# Altium footprint library Barsotion_PcbLib.PcbLib: 66 footprints (part 1 of 5)
Each footprint in its own frame and in the unit in brackets; x right, y up, seen from the top. Pads: shape width x height; smd on the part's side, far side on the other; paste and mask are expansions set on the pad; w line width, h text height; cw(c..) or ccw(c..) is an arc to the next point about the centre after c.
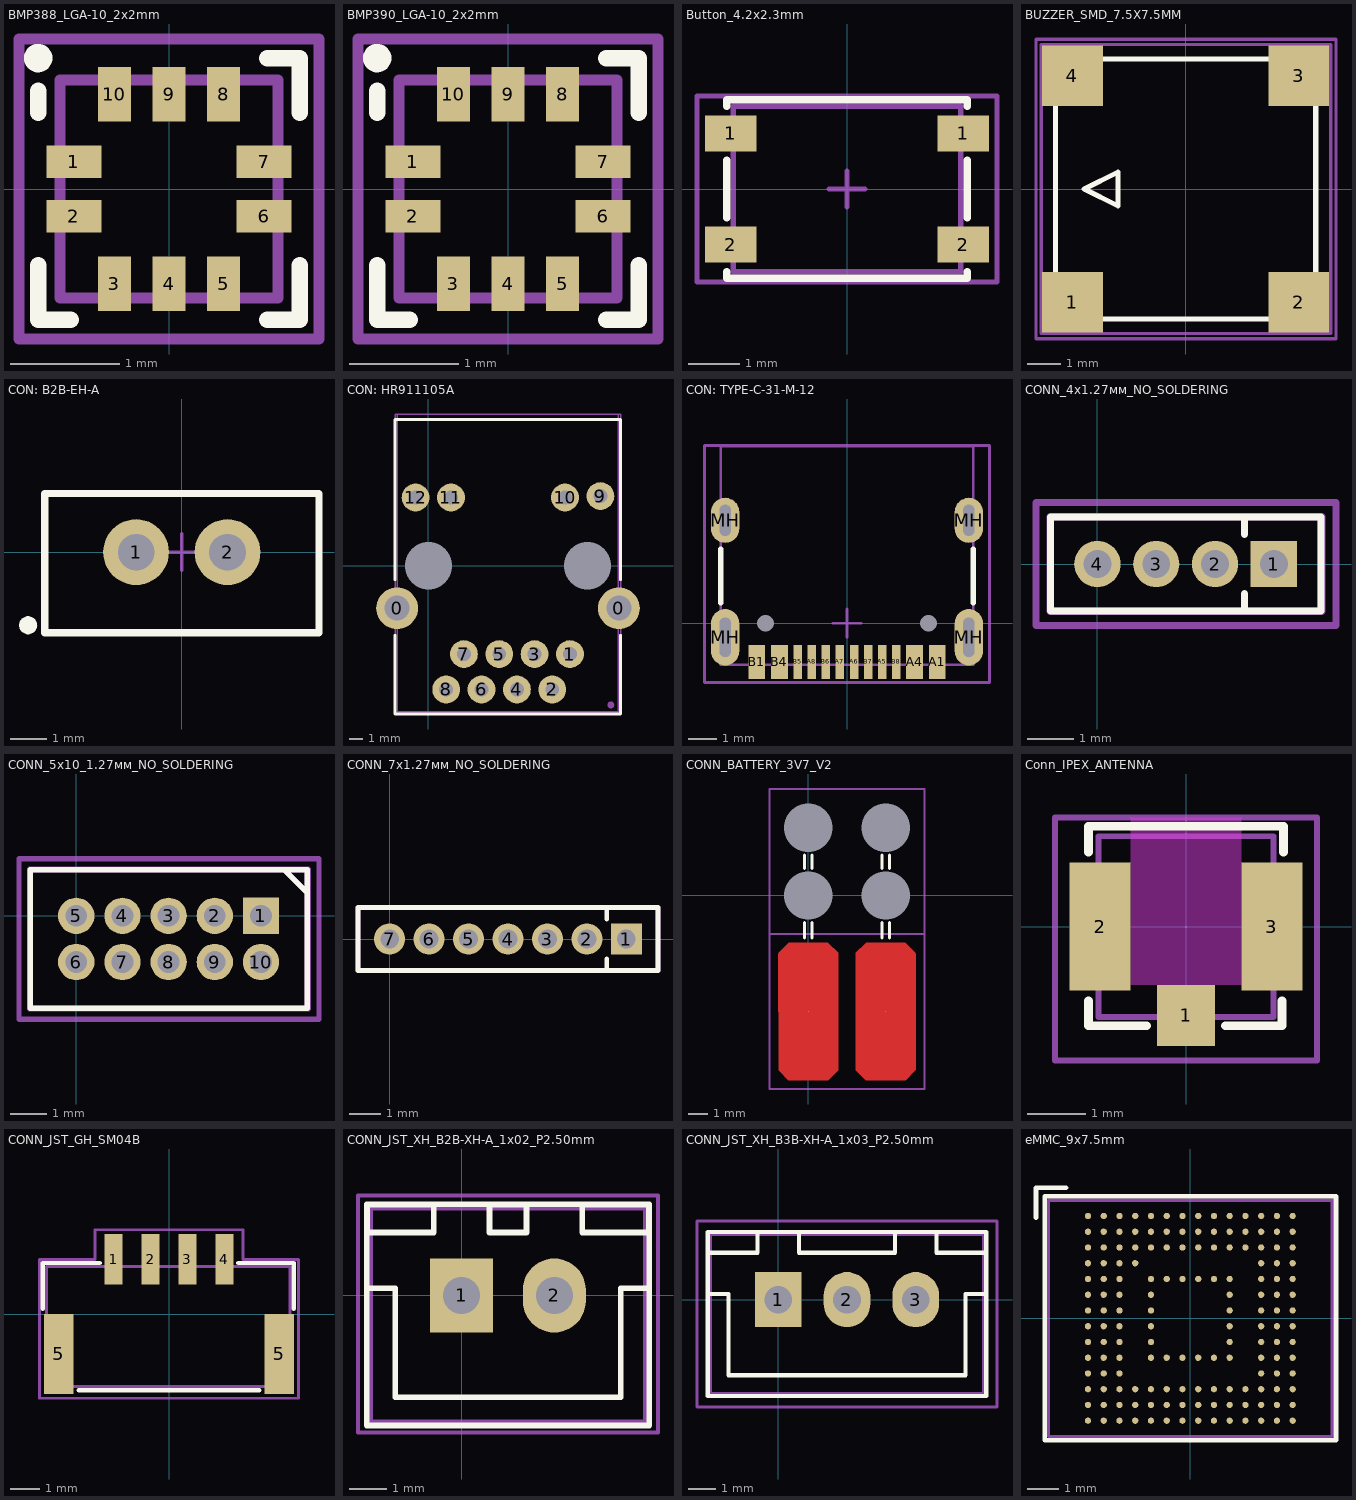
[diagram p0: the footprints below, top view; thin cyan lines are the x and y axes]

## BMP388_LGA-10_2x2mm [mm]
pads (10):
  rect 0.5x0.3 smd mask+0.05: 1(-0.871,0.25) 2(-0.871,-0.25) 6(0.871,-0.25) 7(0.871,0.25)
  rect 0.3x0.5 smd mask+0.05: 3(-0.5,-0.869) 4(0,-0.869) 5(0.5,-0.869) 8(0.5,0.869) 9(0,0.869) 10(-0.5,0.869)
Top Overlay:
  circle w0.15: c-1.2,1.2 r0.056
  lines w0.15: -1.2,-0.7 -1.2,-1.2 -0.9,-1.2 ; -1.2,0.7 -1.2,0.9 ; 0.9,-1.2 1.2,-1.2 1.2,-0.7 ; 0.9,1.2 1.2,1.2 1.2,0.7
Mechanical 1:
  lines w0.1: -1,-1 -1,1 1,1 1,-1 -1,-1
Mechanical 15:
  lines w0.1: -1.375,-1.375 1.375,-1.375 1.375,1.375 -1.375,1.375 -1.375,-1.375
3D body "BMP388.step": height 0.8, standoff 0, extent -1,-1 1,1

## BMP390_LGA-10_2x2mm [mm]
pads (10):
  rect 0.5x0.3 smd mask+0.05: 1(-0.871,0.25) 2(-0.871,-0.25) 6(0.871,-0.25) 7(0.871,0.25)
  rect 0.3x0.5 smd mask+0.05: 3(-0.5,-0.869) 4(0,-0.869) 5(0.5,-0.869) 8(0.5,0.869) 9(0,0.869) 10(-0.5,0.869)
Top Overlay:
  circle w0.15: c-1.2,1.2 r0.056
  lines w0.15: -1.2,-0.7 -1.2,-1.2 -0.9,-1.2 ; -1.2,0.7 -1.2,0.9 ; 0.9,-1.2 1.2,-1.2 1.2,-0.7 ; 0.9,1.2 1.2,1.2 1.2,0.7
Mechanical 1:
  lines w0.1: -1,-1 1,-1 1,1 -1,1 -1,-1
Mechanical 15:
  lines w0.1: -1.375,-1.375 1.375,-1.375 1.375,1.375 -1.375,1.375 -1.375,-1.375
3D body "BMP390.step": height 0.8, standoff 0, extent -1,-1 1,1

## Button_4.2x2.3mm [mm]
pads (4):
  rect 1x0.7 smd mask+0.05: 1(-2.25,1.075) 1(2.25,1.075) 2(-2.25,-1.075) 2(2.25,-1.075)
Top Overlay:
  lines w0.15: -2.325,-1.6 -2.325,-1.725 2.325,-1.725 2.325,-1.6 ; -2.325,-0.55 -2.325,0.55 ; -2.325,1.6 -2.325,1.725 2.325,1.725 2.325,1.6 ; 2.325,-0.55 2.325,0.55
Mechanical 1:
  lines w0.1: -2.2,-1.6 -2.2,1.6 2.2,1.6 2.2,-1.6 -2.2,-1.6
Mechanical 15:
  lines w0.1: -0.35,0 0.35,0 ; 0,-0.35 0,0.35 ; -2.9,-1.8 2.9,-1.8 2.9,1.8 -2.9,1.8 -2.9,-1.8

## BUZZER_SMD_7.5X7.5MM [mm]
pads (4):
  rect 1.8x1.8 smd mask+0.05: 1(-3.35,-3.35) 2(3.35,-3.35) 3(3.35,3.35) 4(-3.35,3.35)
Top Overlay:
  lines w0.15: -3.85,-3.85 3.85,-3.85 3.85,3.85 -3.85,3.85 -3.85,-3.85 ; -3,0 -2,-0.5 -2,0.5 -3,0
Mechanical 13:
  lines w0.1: -4.275,-4.275 4.3,-4.275 4.3,4.275 -4.275,4.275 -4.275,-4.275
Mechanical 15:
  lines w0.1: -4.425,-4.425 4.45,-4.425 4.45,4.425 -4.425,4.425 -4.425,-4.425
3D body "PUIAudio_SMT_0825_S_4_R.step": height 3.03, standoff -0.02, extent -4.269,-4.269 4.269,4.269

## CON: B2B-EH-A [mm]
pads (3):
  round 1.8 hole 1: 1(-1.25,0) 2(1.25,0)
  round 0.5 on Top Overlay: ""(-4.2,-2)
Top Overlay:
  lines w0.2: -3.75,-2.2 -3.75,1.6 3.75,1.6 3.75,-2.2 -3.75,-2.2
Mechanical 1:
  lines w0.1: -3.75,-2.2 -3.75,1.6 3.75,1.6 3.75,-2.2 -3.75,-2.2
Mechanical 15:
  lines w0.1: -0.5,0 0.5,0 ; 0,-0.5 0,0.5 ; -3.75,-2.2 -3.75,1.6 3.75,1.6 3.75,-2.2 -3.75,-2.2
3D body "User Library-B2B-EH-A.STEP": height 6.05, standoff -3.15, extent -3.75,-2.2 3.75,1.6

## CON: HR911105A [mm]
height 14
pads (17):
  round 3 hole 1.8: 0(-2.25,-3.05) 0(13.68,-3.05)
  oval 0.7x0 hole 3.4: 0(0,0) 0(11.43,0)
  round 2 hole 1: 1(10.165,-6.35) 2(8.895,-8.89) 3(7.625,-6.35) 4(6.355,-8.89) 5(5.085,-6.35) 6(3.815,-8.89) 7(2.545,-6.35) 8(1.275,-8.89) 9(12.35,5) 10(9.81,4.9) 11(1.62,4.9) 12(-0.92,4.9)
  round 0.5 on Mech1: ""(13.1,-10)
Top Overlay:
  lines w0.2: -2.4,-5 -2.4,-10.65 13.8,-10.65 13.8,-5 ; -2.4,-1 -2.4,10.5 13.8,10.5 13.8,-1
Mechanical 1:
  lines w0.1: -2.24,-10.5 -2.24,10.9 13.64,10.9 13.64,-10.5 -2.24,-10.5
Mechanical 15:
  lines w0.1: -2.4,-10.6 -2.4,-1 -2.4,10.9 13.8,10.9 13.8,-10.6 -2.4,-10.6
3D body "User Library-HR911105A.STEP": height 13.6, standoff -2.9, extent -2.24,-10.5 13.64,10.9

## CON: TYPE-C-31-M-12 [mm]
pads (18):
  rect 0.6x1.2 smd mask+0.075: A1(3.2,-1.375) A4(2.4,-1.375) B1(-3.2,-1.375) B4(-2.4,-1.375)
  rect 0.3x1.2 smd mask+0.075: A5(1.25,-1.375) A6(0.25,-1.375) A7(-0.25,-1.375) A8(-1.25,-1.375) B5(-1.75,-1.375) B6(-0.75,-1.375) B7(0.75,-1.375) B8(1.75,-1.375)
  oval 1x2 hole 0.4 slot 1.4 at 90 deg mask+0.075: MH(-4.32,-0.5) MH(4.32,-0.5)
  oval 1x1.6 hole 0.4 slot 1.1 at 90 deg mask+0.075: MH(-4.32,3.65) MH(4.32,3.65)
  round 0 hole 0.6 mask+0.075: MH(-2.89,0) MH(2.89,0)
Top Overlay:
  lines w0.2: -4.475,0.725 -4.475,2.625 ; 4.475,0.725 4.475,2.625
Mechanical 1:
  lines w0.1: -4.475,-1.475 4.475,-1.475 4.475,6.275 -4.475,6.275 -4.475,-1.475
Mechanical 15:
  lines w0.1: -0.5,0 0.5,0 ; 0,-0.5 0,0.5 ; -5.05,-2.1 -5.05,6.3 5.05,6.3 5.05,-2.1 -5.05,-2.1
3D body "User Library-USB - C.STEP": height 3.26, standoff -1, extent -4.475,-1.475 4.475,6.275

## CONN_4x1.27мм_NO_SOLDERING [mm]
pads (4):
  rect 1x1 hole 0.6 mask+0.05: 1(3.81,0)
  round 1 hole 0.6 mask+0.05: 2(2.54,0) 3(1.27,0) 4(0,0)
Top Overlay:
  lines w0.15: 3.175,-1.016 3.175,-0.635 ; 3.175,0.635 3.175,1.016 ; -1.016,-1.016 4.826,-1.016 4.826,1.016 -1.016,1.016 -1.016,-1.016
Mechanical 1:
  lines w0.15: -1.016,-1.016 -0.762,-1.016 4.826,-1.016 4.826,1.016 0,1.016 -1.016,1.016 -1.016,-1.016
Mechanical 13:
  lines w0.15: -1.025,-1.025 4.85,-1.025 4.85,1.025 -1.025,1.025 -1.025,-1.025
Mechanical 15:
  lines w0.15: -1.325,-1.325 5.15,-1.325 5.15,1.325 -1.325,1.325 -1.325,-1.325

## CONN_5x10_1.27мм_NO_SOLDERING [mm]
pads (10):
  rect 1x1 hole 0.6 mask+0.05: 1(5.08,0)
  round 1 hole 0.6 mask+0.05: 2(3.81,0) 3(2.54,0) 4(1.27,0) 5(0,0) 6(0,-1.27) 7(1.27,-1.27) 8(2.54,-1.27) 9(3.81,-1.27) 10(5.08,-1.27)
Top Overlay:
  lines w0.15: 5.715,1.27 6.35,0.635 ; -1.27,-2.54 -1.27,1.27 6.35,1.27 6.35,-2.54 -1.27,-2.54
Mechanical 13:
  lines w0.15: 5.715,1.27 6.35,0.635 ; -1.275,-2.55 6.375,-2.55 6.375,1.275 -1.275,1.275 -1.275,-2.55 ; -1.27,-2.54 6.35,-2.54 6.35,1.27 -1.27,1.27 -1.27,-2.54
Mechanical 15:
  lines w0.15: -1.575,-2.85 6.675,-2.85 6.675,1.575 -1.575,1.575 -1.575,-2.85

## CONN_7x1.27мм_NO_SOLDERING [mm]
pads (7):
  rect 1x1 hole 0.6 mask+0.05: 1(7.62,0)
  round 1 hole 0.6 mask+0.05: 2(6.35,0) 3(5.08,0) 4(3.81,0) 5(2.54,0) 6(1.27,0) 7(0,0)
Top Overlay:
  lines w0.15: 6.985,-1.016 6.985,-0.635 ; 6.985,0.635 6.985,1.016 ; -1.016,-1.016 -1.016,1.016 8.636,1.016 8.636,-1.016 -1.016,-1.016
Mechanical 1:
  lines w0.15: -1.016,-1.016 -1.016,1.016 0,1.016 8.636,1.016 8.636,-0.762 8.636,-1.016 -0.762,-1.016 -1.016,-1.016

## CONN_BATTERY_3V7_V2 [mm]
pads (6):
  round 0.025 smd: 1(4,-6) 2(0,-6)
  rect 1.5x0.9 hole 2.5 unplated: ""(0,0) ""(0,3.5) ""(4,0) ""(4,3.5)
Top Layer:
  region: 2.464,-9.036 2.964,-9.536 3,-9.55 5,-9.55 5.036,-9.536 5.536,-9.036 5.55,-9 5.55,-3 5.536,-2.964 5.036,-2.464 5,-2.45 3,-2.45 2.964,-2.464 2.464,-2.964 2.45,-3
  region: -1.536,-9.036 -1.036,-9.536 -1,-9.55 1,-9.55 1.036,-9.536 1.536,-9.036 1.55,-9 1.55,-3 1.536,-2.964 1.036,-2.464 1,-2.45 -1,-2.45 -1.036,-2.464 -1.536,-2.964 -1.55,-3
Top Overlay:
  lines w0.15: -0.2,-2.2 -0.2,-1.4 ; -0.2,1.4 -0.2,2.1 ; 0.2,-2.2 0.2,-1.4 ; 0.2,1.4 0.2,2.1 ; 3.8,-2.2 3.8,-1.4 ; 3.8,1.4 3.8,2.1 ; 4.2,-2.2 4.2,-1.4 ; 4.2,1.4 4.2,2.1
Mechanical 13:
  lines w0.1: -2,-2 6,-2 ; -2,-10 -2,5.5 6,5.5 6,-10 -2,-10
Mechanical 15:
  lines w0.1: -2,-10 6,-10 6,5.5 -2,5.5 -2,-10

## Conn_IPEX_ANTENNA [mm]
pads (3):
  rect 1x1.05 smd: 1(0,-1.525)
  rect 1.05x2.2 smd: 2(-1.475,0) 3(1.475,0)
Top Overlay:
  lines w0.15: -1.675,-1.275 -1.675,-1.7 -0.675,-1.7 ; -1.675,1.275 -1.675,1.675 -1.675,1.7 -1.675,1.725 1.65,1.725 1.675,1.725 1.675,1.275 ; 0.675,-1.7 1.65,-1.7 1.65,-1.275
Keep-Out Layer:
  rectangle: -0.95,-1 0.95,1.875
Mechanical 13:
  lines w0.1: -1.5,-1.55 1.5,-1.55 1.5,1.55 -1.5,1.55 -1.5,-1.55
Mechanical 15:
  lines w0.1: -2.25,-2.3 2.25,-2.3 2.25,1.875 -2.25,1.875 -2.25,-2.3
3D body "U.FL_Hirose_U.FL-R-SMT-1_Vertical.step": height 1.25, standoff 0, extent -1.5,-1.55 1.5,1.55

## CONN_JST_GH_SM04B [mm]
pads (6):
  rect 0.6x1.7 smd: 1(-1.875,1.85) 2(-0.625,1.85) 3(0.625,1.85) 4(1.875,1.85)
  rect 1x2.7 smd: 5(-3.725,-1.35) 5(3.725,-1.35)
Top Overlay:
  lines w0.15: -4.275,0.175 -4.275,1.725 -4.25,1.725 -2.35,1.725 ; -3.05,-2.575 3.05,-2.575 ; 2.35,1.725 4.225,1.725 4.225,0.175
Mechanical 13:
  lines w0.1: -4.15,-2.45 4.1,-2.45 4.1,1.6 -4.15,1.6 -4.15,-2.45
Mechanical 15:
  lines w0.1: -4.375,-2.85 -4.375,1.85 -2.5,1.85 -2.5,2.85 2.5,2.85 2.5,1.85 4.375,1.85 4.375,-2.85 -4.375,-2.85
3D body "JST_GH_SM04B-GHS-TB_1x04-1MP_P1.25mm_Horizontal.step": height 4.25, standoff -0.01, extent -4.125,-2.475 4.125,2.475

## CONN_JST_XH_B2B-XH-A_1x02_P2.50mm [mm]
pads (2):
  rect 1.7x2 hole 1: 1(0,0)
  oval 1.7x2 hole 1: 2(2.5,0)
Top Overlay:
  lines w0.15: -2.55,0.2 -1.8,0.2 -1.8,-2.75 4.3,-2.75 4.3,0.2 5.05,0.2 ; -2.56,-3.51 5.06,-3.51 5.06,2.46 -2.56,2.46 -2.56,-3.51 ; -2.55,1.7 -0.75,1.7 -0.75,2.45 -2.55,2.45 -2.55,1.7 ; 0.75,1.7 1.75,1.7 1.75,2.45 0.75,2.45 0.75,1.7 ; 3.25,1.7 5.05,1.7 5.05,2.45 3.25,2.45 3.25,1.7
Mechanical 13:
  lines w0.1: -2.45,-3.4 -2.45,2.35 4.95,2.35 4.95,-3.4 -2.45,-3.4
Mechanical 15:
  lines w0.1: -2.8,-3.7 5.3,-3.7 5.3,2.7 -2.8,2.7 -2.8,-3.7
3D body "JST_XH_B2B-XH-A_1x02_P2.50mm_Vertical.step": height 7, standoff -3.4, extent -2.45,-3.4 4.95,2.35

## CONN_JST_XH_B3B-XH-A_1x03_P2.50mm [mm]
pads (3):
  rect 1.7x2 hole 1: 1(0,0)
  oval 1.7x2 hole 1: 2(2.5,0) 3(5,0)
Top Overlay:
  lines w0.15: -2.55,0.2 -1.8,0.2 -1.8,-2.75 6.8,-2.75 6.8,0.2 7.55,0.2 ; -2.56,-3.51 7.56,-3.51 7.56,2.46 -2.56,2.46 -2.56,-3.51 ; -2.55,1.7 -0.75,1.7 -0.75,2.45 -2.55,2.45 -2.55,1.7 ; 0.75,1.7 4.25,1.7 4.25,2.45 0.75,2.45 0.75,1.7 ; 5.75,1.7 7.55,1.7 7.55,2.45 5.75,2.45 5.75,1.7
Mechanical 13:
  lines w0.1: -2.45,-3.4 -2.45,2.35 7.45,2.35 7.45,-3.4 -2.45,-3.4
Mechanical 15:
  lines w0.1: -2.95,-3.9 7.95,-3.9 7.95,2.85 -2.95,2.85 -2.95,-3.9
3D body "JST_XH_B3B-XH-A_1x03_P2.50mm_Vertical.step": height 7, standoff -3.4, extent -2.45,-3.4 7.45,2.35

## eMMC_9x7.5mm [mm]
pads (153):
  round 0.2 smd mask+0.05: A1(-3.25,3.25) A2(-2.75,3.25) A3(-2.25,3.25) A4(-1.75,3.25) A5(-1.25,3.25) A6(-0.75,3.25) A7(-0.25,3.25) A8(0.25,3.25) A9(0.75,3.25) A10(1.25,3.25) A11(1.75,3.25) A12(2.25,3.25) A13(2.75,3.25) A14(3.25,3.25) B1(-3.25,2.75) B2(-2.75,2.75) B3(-2.25,2.75) B4(-1.75,2.75) B5(-1.25,2.75) B6(-0.75,2.75) B7(-0.25,2.75) B8(0.25,2.75) B9(0.75,2.75) B10(1.25,2.75) B11(1.75,2.75) B12(2.25,2.75) B13(2.75,2.75) B14(3.25,2.75) C1(-3.25,2.25) C2(-2.75,2.25) C3(-2.25,2.25) C4(-1.75,2.25) C5(-1.25,2.25) C6(-0.75,2.25) C7(-0.25,2.25) C8(0.25,2.25) C9(0.75,2.25) C10(1.25,2.25) C11(1.75,2.25) C12(2.25,2.25) C13(2.75,2.25) C14(3.25,2.25) D1(-3.25,1.75) D2(-2.75,1.75) D3(-2.25,1.75) D4(-1.75,1.75) D12(2.25,1.75) D13(2.75,1.75) D14(3.25,1.75) E1(-3.25,1.25) E2(-2.75,1.25) E3(-2.25,1.25) E5(-1.25,1.25) E6(-0.75,1.25) E7(-0.25,1.25) E8(0.25,1.25) E9(0.75,1.25) E10(1.25,1.25) E12(2.25,1.25) E13(2.75,1.25) E14(3.25,1.25) F1(-3.25,0.75) F2(-2.75,0.75) F3(-2.25,0.75) F5(-1.25,0.75) F10(1.25,0.75) F12(2.25,0.75) F13(2.75,0.75) F14(3.25,0.75) G1(-3.25,0.25) G2(-2.75,0.25) G3(-2.25,0.25) G5(-1.25,0.25) G10(1.25,0.25) G12(2.25,0.25) G13(2.75,0.25) G14(3.25,0.25) H1(-3.25,-0.25) H2(-2.75,-0.25) H3(-2.25,-0.25) H5(-1.25,-0.25) H10(1.25,-0.25) H12(2.25,-0.25) H13(2.75,-0.25) H14(3.25,-0.25) J1(-3.25,-0.75) J2(-2.75,-0.75) J3(-2.25,-0.75) J5(-1.25,-0.75) J10(1.25,-0.75) J12(2.25,-0.75) J13(2.75,-0.75) J14(3.25,-0.75) K1(-3.25,-1.25) K2(-2.75,-1.25) K3(-2.25,-1.25) K5(-1.25,-1.25) K6(-0.75,-1.25) K7(-0.25,-1.25) K8(0.25,-1.25) K9(0.75,-1.25) K10(1.25,-1.25) K12(2.25,-1.25) K13(2.75,-1.25) K14(3.25,-1.25) L1(-3.25,-1.75) L2(-2.75,-1.75) L3(-2.25,-1.75) L12(2.25,-1.75) L13(2.75,-1.75) L14(3.25,-1.75) M1(-3.25,-2.25) M2(-2.75,-2.25) M3(-2.25,-2.25) M4(-1.75,-2.25) M5(-1.25,-2.25) M6(-0.75,-2.25) M7(-0.25,-2.25) M8(0.25,-2.25) M9(0.75,-2.25) M10(1.25,-2.25) M11(1.75,-2.25) M12(2.25,-2.25) M13(2.75,-2.25) M14(3.25,-2.25) N1(-3.25,-2.75) N2(-2.75,-2.75) N3(-2.25,-2.75) N4(-1.75,-2.75) N5(-1.25,-2.75) N6(-0.75,-2.75) N7(-0.25,-2.75) N8(0.25,-2.75) N9(0.75,-2.75) N10(1.25,-2.75) N11(1.75,-2.75) N12(2.25,-2.75) N13(2.75,-2.75) N14(3.25,-2.75) P1(-3.25,-3.25) P2(-2.75,-3.25) P3(-2.25,-3.25) P4(-1.75,-3.25) P5(-1.25,-3.25) P6(-0.75,-3.25) P7(-0.25,-3.25) P8(0.25,-3.25) P9(0.75,-3.25) P10(1.25,-3.25) P11(1.75,-3.25) P12(2.25,-3.25) P13(2.75,-3.25) P14(3.25,-3.25)
Top Overlay:
  lines w0.15: -4.9,3.2 -4.9,4.15 -3.95,4.15 ; -4.625,-3.875 4.625,-3.875 4.625,3.875 -4.625,3.875 -4.625,-3.875
Mechanical 13:
  lines w0.1: -4.5,-3.75 -4.5,3.75 4.5,3.75 4.5,-3.75 -4.5,-3.75
3D body "S40FC004C1B2I00300.stp": height 0.8, standoff 0, extent -4.5,-3.75 4.5,3.75